# EAGLE library part LMD1820X (library SparkFun-PowerIC)
LMD1820X H-Bridge - BOB-00747
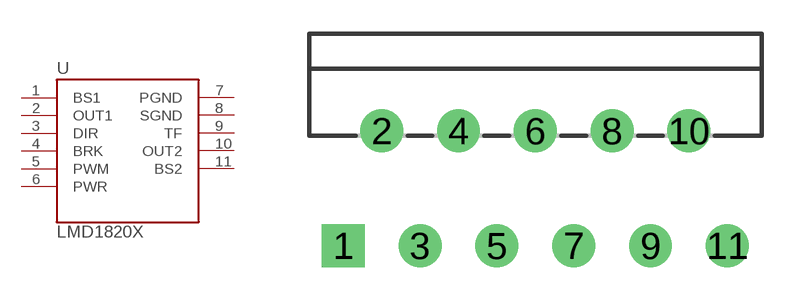
[diagram p12: symbol with the pads of TO-220-11LEAD; footprint TO-220-11LEAD]

Designator prefix -

## LMD1820X  [TO-220-11LEAD]
1  BS1
2  OUT1
3  DIR
4  BRK
5  PWM
6  PWR
7  PGND
8  SGND
9  TF
10  OUT2
11  BS2

## Footprint TO-220-11LEAD (pad centres in mm)
TO-220 11 Pin Package
drill 1.1 pad 1.9 square: 1 1.5,-4.87
drill 1.1 pad 1.9: 2 3.2,0.21; 3 4.9,-4.87; 4 6.6,0.21; 5 8.3,-4.87; 6 10,0.21; 7 11.7,-4.87; 8 13.4,0.21; 9 15.1,-4.87; 10 16.8,0.21; 11 18.5,-4.87